# EAGLE library part WPME-VDMM_171930601 (library WPME-VDMM)
MagI³C-VDMM Variable Step Down MicroModule Characteristics Low conducted and radiated EMI (compliant to EN55022 class B / CISPR-22 LGA-6EP Very low profile micropackage Ideal for space constrained applications 3 solder cycles supported LGA-8EP Very low profile micropackage Ideal for space constrained applications For direct connection to 24 V industrial voltage network 3 solder cycles supported Applications Point-of-Load DC/DC applications Replacement for linear regulators Interface and microcontroller supply DSP and FPGA power supply auxiliary voltages Portable instruments Battery powered equipment Sensors <https://www.we-online.com/components/media/o109063v209%20VDMM_Group.jpg> Details see: www.we-online.com/en/components/products/MAGIC-VDMM <www.we-online.com/catalog/MAGIC-VDMM/?utm_source=eagle_model&utm_medium=description_link&utm_campaign=eisos_eagle> Created By Ella Wu 2021-12-08 2021 (C) Wurth Elektronik
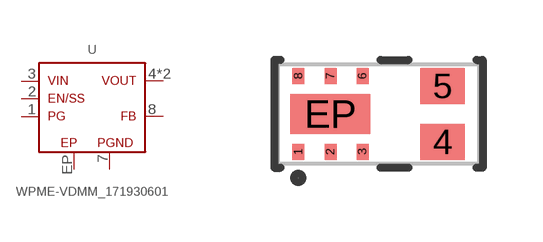
[diagram p0: symbol with the pads of MAGI³C-VDMM_171930601; footprint MAGI³C-VDMM_171930601]

Designator prefix U

## WPME-VDMM_171930601 (DATASHEET-URL: https://www.we-online.com/redexpert/spec/171930601?ae; HEIGHT: 1.8mm; I-OUTPUT: 0.3A; LENGTH: 5mm; MOUNT: SMT; PART-NUMBER: 171930601; TYPE: Overmolded; V-INPUT: 3.6-36V; V-OUTPUT: 1-6V; VALUE: 171930601; VERSION: Power Good; WIDTH: 2.5mm)  [MAGI³C-VDMM_171930601]
1  1  pas
2  2  pas
3  3  pas
4  4&5  pas
5  4&5  pas
7  7  pas
8  8  pas
EP  9  pas

## Footprint MAGI³C-VDMM_171930601 (pad centres in mm)
MagI³C-VDMM Variable Step Down MicroModule
smd 0.3 x 0.4: 1 -2,-0.95; 2 -1.2,-0.95; 3 -0.4,-0.95; 6 -0.4,0.95; 7 -1.2,0.95; 8 -2,0.95
smd 1.1 x 0.9: 4 1.6,-0.7; 5 1.6,0.7
smd 2 x 1: EP -1.2,0